# EAGLE library part NC182M25 (library con-subd)
SUB-D MALE - NorComp
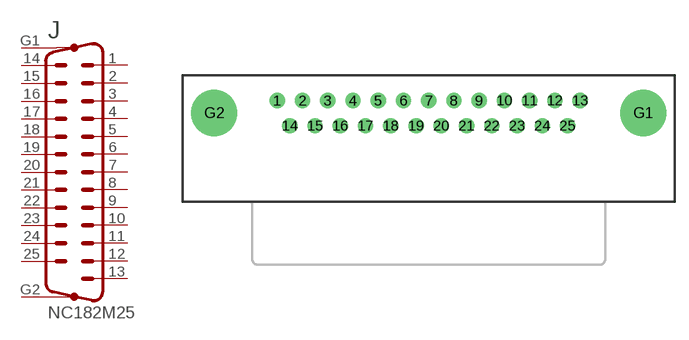
[diagram p75: symbol with the pads of NC182M25; footprint NC182M25]

Designator prefix J

## NC182M25  [NC182M25]
1  1  pas
2  2  pas
3  3  pas
4  4  pas
5  5  pas
6  6  pas
7  7  pas
8  8  pas
9  9  pas
10  10  pas
11  11  pas
12  12  pas
13  13  pas
14  14  pas
15  15  pas
16  16  pas
17  17  pas
18  18  pas
19  19  pas
20  20  pas
21  21  pas
22  22  pas
23  23  pas
24  24  pas
25  25  pas
G1  G1  pas
G2  G2  pas

## Footprint NC182M25 (pad centres in mm)
NORCOMP SUB-D
drill 1.016 pad 1.676: 1 -16.612,2.769; 2 -13.843,2.769; 3 -11.074,2.769; 4 -8.306,2.769; 5 -5.537,2.769; 6 -2.769,2.769; 7 0,2.769; 8 2.769,2.769; 9 5.537,2.769; 10 8.306,2.769; 11 11.074,2.769; 12 13.843,2.769; 13 16.612,2.769; 14 -15.227,0; 15 -12.459,0; 16 -9.69,0; 17 -6.921,0; 18 -4.153,0; 19 -1.384,0; 20 1.384,0; 21 4.153,0; 22 6.921,0; 23 9.69,0; 24 12.459,0; 25 15.227,0
drill 3.251 pad 5.08: G1 23.533,1.384; G2 -23.533,1.384